# EAGLE library part PCA9538 (library i2c_95xx)
8bit I2C-Bus-Expander with Interrupt and Reset
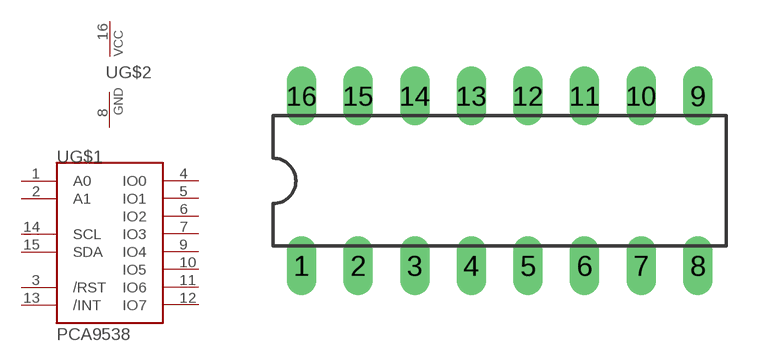
[diagram p15: symbol with the pads of DIL16; footprint DIL16]

Designator prefix -; gates G$1=PCA9538 G$2=PWRN

## PCA9538  [DIL16]
1  G$1:A0
2  G$1:A1
3  G$1:/RST
4  G$1:IO0
5  G$1:IO1
6  G$1:IO2
7  G$1:IO3
8  G$2:GND  pwr
9  G$1:IO4
10  G$1:IO5
11  G$1:IO6
12  G$1:IO7
13  G$1:/INT
14  G$1:SCL
15  G$1:SDA
16  G$2:VCC  pwr

## Footprint DIL16 (pad centres in mm)
drill 0.813 long: 1 -8.89,-3.81; 2 -6.35,-3.81; 3 -3.81,-3.81; 4 -1.27,-3.81; 5 1.27,-3.81; 6 3.81,-3.81; 7 6.35,-3.81; 8 8.89,-3.81; 9 8.89,3.81; 10 6.35,3.81; 11 3.81,3.81; 12 1.27,3.81; 13 -1.27,3.81; 14 -3.81,3.81; 15 -6.35,3.81; 16 -8.89,3.81